# EAGLE library part DS3231M_HEADER (library DFRobot DS3231M)
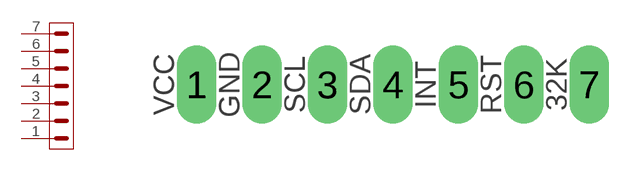
[diagram p0: symbol with the pads of DS3231M_HEADER; footprint DS3231M_HEADER]

Designator prefix P

## DS3231M_HEADERFEMALE (CATEGORY: Connectors; DESCRIPTION: Header-Straight-7 Position; PACKAGE_TYPE: Through Hole; PITCH: 0.100" (2.54mm); SUBCATEGORY: Headers; TYPE: Male Pins)  [DS3231M_HEADER]
1  1  pwr
2  2  pwr
3  3
4  4
5  5  out
6  6  in
7  7  out

## DS3231M_HEADERMALE  [DS3231M_HEADER]
Pads as for DS3231M_HEADER

## Footprint DS3231M_HEADER (pad centres in mm)
drill 1.016 long: 1 -7.62,0; 2 -5.08,0; 3 -2.54,0; 4 0,0; 5 2.54,0; 6 5.08,0; 7 7.62,0